# Altium integrated library Newport Power Mgt DC-DC Converter.IntLib: 312 symbols (part 1 of 5)
Pins are listed as number, name and electrical type; pins without a type are passive.

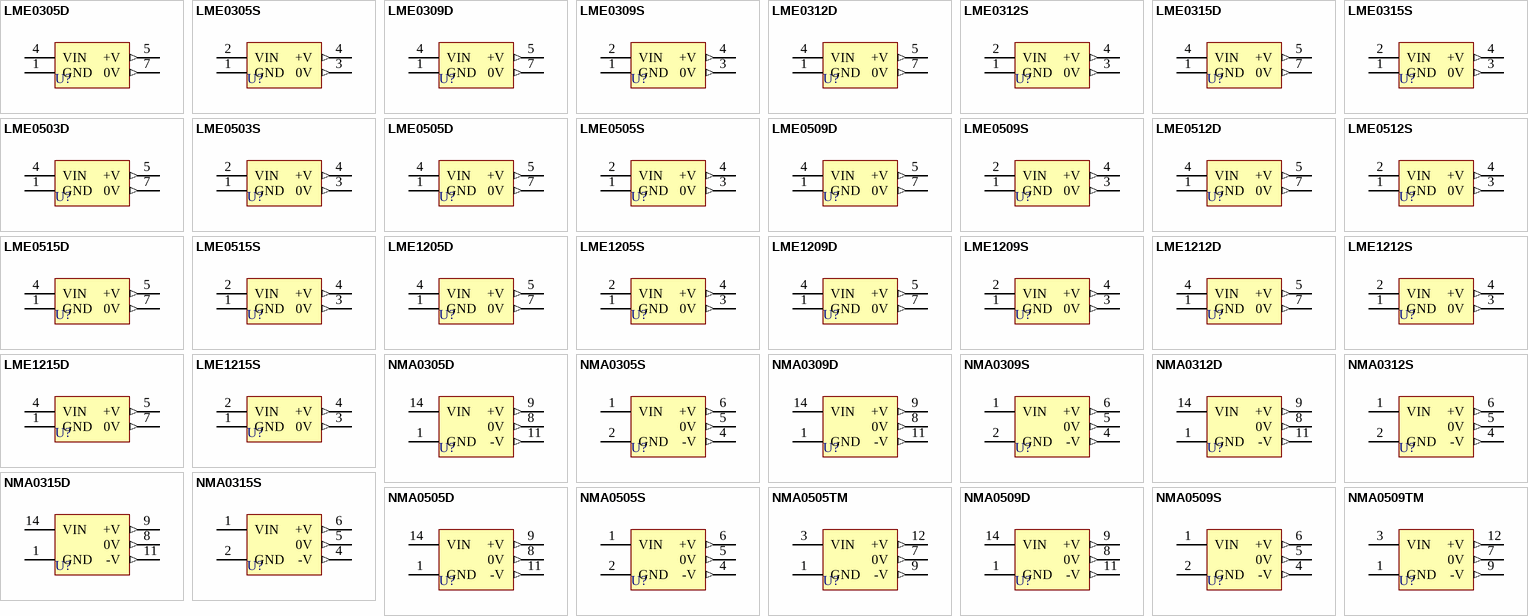
[diagram p0: symbols LME0305D to NMA0509TM]

## LME0305D
designator U?
Isolated 250mW Single Output; Note: Pins 2,3,6,8 are not presented; Published: 8-Jun-2000; LatestRevisionDate: 17-Jul-2002; LatestRevisionNote: Re-released for DXP Platform.; DatasheetVersion: Jul-1996; PackageVersion: 1996; PackageReference: NPDIP8; Publisher: Altium Limited; PackageDescription: DIP; 8 Rectangular pins (4 Absent); Row Space 7.62 mm; Pitch 2.54 mm; ComponentLink1Description: Manufacturer Link; ComponentLink1URL: http://www.dc-dc.com/; ComponentLink2Description: Datasheet; ComponentLink2URL: http://www.cd4power.com/data/power/ncl/ndc_lme_4.pdf
footprint NPDIP8 (DIP; 8 Rectangular pins (4 Absent); Row Space 7.62 mm; Pitch 2.54 mm)
pins: 1 GND (power), 4 VIN (power), 5 +V (out), 7 0V (out)

## LME0305S
designator U?
Isolated 250mW Single Output; Published: 8-Jun-2000; LatestRevisionDate: 17-Jul-2002; LatestRevisionNote: Re-released for DXP Platform.; DatasheetVersion: Jul-1996; PackageVersion: 1996; PackageReference: NPSIP4; Publisher: Altium Limited; PackageDescription: SIP; 4 Leads; Body 10 x 11.5 x 6 mm (typ); Pitch 2.54 mm; ComponentLink1Description: Manufacturer Link; ComponentLink1URL: http://www.dc-dc.com/; ComponentLink2Description: Datasheet; ComponentLink2URL: http://www.cd4power.com/data/power/ncl/ndc_lme_4.pdf
footprint NPSIP4 (SIP; 4 Leads; Body 10 x 11.5 x 6 mm (typ); Pitch 2.54 mm)
pins: 1 GND (power), 2 VIN (power), 3 0V (out), 4 +V (out)

## LME0309D
designator U?
Isolated 250mW Single Output; Note: Pins 2,3,6,8 are not presented; Published: 8-Jun-2000; LatestRevisionDate: 17-Jul-2002; LatestRevisionNote: Re-released for DXP Platform.; DatasheetVersion: Jul-1996; PackageVersion: 1996; PackageReference: NPDIP8; Publisher: Altium Limited; PackageDescription: DIP; 8 Rectangular pins (4 Absent); Row Space 7.62 mm; Pitch 2.54 mm; ComponentLink1Description: Manufacturer Link; ComponentLink1URL: http://www.dc-dc.com/; ComponentLink2Description: Datasheet; ComponentLink2URL: http://www.cd4power.com/data/power/ncl/ndc_lme_4.pdf
footprint NPDIP8 (DIP; 8 Rectangular pins (4 Absent); Row Space 7.62 mm; Pitch 2.54 mm)
pins: 1 GND (power), 4 VIN (power), 5 +V (out), 7 0V (out)

## LME0309S
designator U?
Isolated 250mW Single Output; Published: 8-Jun-2000; LatestRevisionDate: 17-Jul-2002; LatestRevisionNote: Re-released for DXP Platform.; DatasheetVersion: Jul-1996; PackageVersion: 1996; PackageReference: NPSIP4; Publisher: Altium Limited; PackageDescription: SIP; 4 Leads; Body 10 x 11.5 x 6 mm (typ); Pitch 2.54 mm; ComponentLink1Description: Manufacturer Link; ComponentLink1URL: http://www.dc-dc.com/; ComponentLink2Description: Datasheet; ComponentLink2URL: http://www.cd4power.com/data/power/ncl/ndc_lme_4.pdf
footprint NPSIP4 (SIP; 4 Leads; Body 10 x 11.5 x 6 mm (typ); Pitch 2.54 mm)
pins: 1 GND (power), 2 VIN (power), 3 0V (out), 4 +V (out)

## LME0312D
designator U?
Isolated 250mW Single Output; Note: Pins 2,3,6,8 are not presented; Published: 8-Jun-2000; LatestRevisionDate: 17-Jul-2002; LatestRevisionNote: Re-released for DXP Platform.; DatasheetVersion: Jul-1996; PackageVersion: 1996; PackageReference: NPDIP8; Publisher: Altium Limited; PackageDescription: DIP; 8 Rectangular pins (4 Absent); Row Space 7.62 mm; Pitch 2.54 mm; ComponentLink1Description: Manufacturer Link; ComponentLink1URL: http://www.dc-dc.com/; ComponentLink2Description: Datasheet; ComponentLink2URL: http://www.cd4power.com/data/power/ncl/ndc_lme_4.pdf
footprint NPDIP8 (DIP; 8 Rectangular pins (4 Absent); Row Space 7.62 mm; Pitch 2.54 mm)
pins: 1 GND (power), 4 VIN (power), 5 +V (out), 7 0V (out)

## LME0312S
designator U?
Isolated 250mW Single Output; Published: 8-Jun-2000; LatestRevisionDate: 17-Jul-2002; LatestRevisionNote: Re-released for DXP Platform.; DatasheetVersion: Jul-1996; PackageVersion: 1996; PackageReference: NPSIP4; Publisher: Altium Limited; PackageDescription: SIP; 4 Leads; Body 10 x 11.5 x 6 mm (typ); Pitch 2.54 mm; ComponentLink1Description: Manufacturer Link; ComponentLink1URL: http://www.dc-dc.com/; ComponentLink2Description: Datasheet; ComponentLink2URL: http://www.cd4power.com/data/power/ncl/ndc_lme_4.pdf
footprint NPSIP4 (SIP; 4 Leads; Body 10 x 11.5 x 6 mm (typ); Pitch 2.54 mm)
pins: 1 GND (power), 2 VIN (power), 3 0V (out), 4 +V (out)

## LME0315D
designator U?
Isolated 250mW Single Output; Note: Pins 2,3,6,8 are not presented; Published: 8-Jun-2000; LatestRevisionDate: 17-Jul-2002; LatestRevisionNote: Re-released for DXP Platform.; DatasheetVersion: Jul-1996; PackageVersion: 1996; PackageReference: NPDIP8; Publisher: Altium Limited; PackageDescription: DIP; 8 Rectangular pins (4 Absent); Row Space 7.62 mm; Pitch 2.54 mm; ComponentLink1Description: Manufacturer Link; ComponentLink1URL: http://www.dc-dc.com/; ComponentLink2Description: Datasheet; ComponentLink2URL: http://www.cd4power.com/data/power/ncl/ndc_lme_4.pdf
footprint NPDIP8 (DIP; 8 Rectangular pins (4 Absent); Row Space 7.62 mm; Pitch 2.54 mm)
pins: 1 GND (power), 4 VIN (power), 5 +V (out), 7 0V (out)

## LME0315S
designator U?
Isolated 250mW Single Output; Published: 8-Jun-2000; LatestRevisionDate: 17-Jul-2002; LatestRevisionNote: Re-released for DXP Platform.; DatasheetVersion: Jul-1996; PackageVersion: 1996; PackageReference: NPSIP4; Publisher: Altium Limited; PackageDescription: SIP; 4 Leads; Body 10 x 11.5 x 6 mm (typ); Pitch 2.54 mm; ComponentLink1Description: Manufacturer Link; ComponentLink1URL: http://www.dc-dc.com/; ComponentLink2Description: Datasheet; ComponentLink2URL: http://www.cd4power.com/data/power/ncl/ndc_lme_4.pdf
footprint NPSIP4 (SIP; 4 Leads; Body 10 x 11.5 x 6 mm (typ); Pitch 2.54 mm)
pins: 1 GND (power), 2 VIN (power), 3 0V (out), 4 +V (out)

## LME0503D
designator U?
Isolated 250mW Single Output; Note: Pins 2,3,6,8 are not presented; Published: 8-Jun-2000; LatestRevisionDate: 17-Jul-2002; LatestRevisionNote: Re-released for DXP Platform.; DatasheetVersion: Jul-1996; PackageVersion: 1996; PackageReference: NPDIP8; Publisher: Altium Limited; PackageDescription: DIP; 8 Rectangular pins (4 Absent); Row Space 7.62 mm; Pitch 2.54 mm; ComponentLink1Description: Manufacturer Link; ComponentLink1URL: http://www.dc-dc.com/; ComponentLink2Description: Datasheet; ComponentLink2URL: http://www.cd4power.com/data/power/ncl/ndc_lme_4.pdf
footprint NPDIP8 (DIP; 8 Rectangular pins (4 Absent); Row Space 7.62 mm; Pitch 2.54 mm)
pins: 1 GND (power), 4 VIN (power), 5 +V (out), 7 0V (out)

## LME0503S
designator U?
Isolated 250mW Single Output; Published: 8-Jun-2000; LatestRevisionDate: 17-Jul-2002; LatestRevisionNote: Re-released for DXP Platform.; DatasheetVersion: Jul-1996; PackageVersion: 1996; PackageReference: NPSIP4; Publisher: Altium Limited; PackageDescription: SIP; 4 Leads; Body 10 x 11.5 x 6 mm (typ); Pitch 2.54 mm; ComponentLink1Description: Manufacturer Link; ComponentLink1URL: http://www.dc-dc.com/; ComponentLink2Description: Datasheet; ComponentLink2URL: http://www.cd4power.com/data/power/ncl/ndc_lme_4.pdf
footprint NPSIP4 (SIP; 4 Leads; Body 10 x 11.5 x 6 mm (typ); Pitch 2.54 mm)
pins: 1 GND (power), 2 VIN (power), 3 0V (out), 4 +V (out)

## LME0505D
designator U?
Isolated 250mW Single Output; Note: Pins 2,3,6,8 are not presented; Published: 8-Jun-2000; LatestRevisionDate: 17-Jul-2002; LatestRevisionNote: Re-released for DXP Platform.; DatasheetVersion: Jul-1996; PackageVersion: 1996; PackageReference: NPDIP8; Publisher: Altium Limited; PackageDescription: DIP; 8 Rectangular pins (4 Absent); Row Space 7.62 mm; Pitch 2.54 mm; ComponentLink1Description: Manufacturer Link; ComponentLink1URL: http://www.dc-dc.com/; ComponentLink2Description: Datasheet; ComponentLink2URL: http://www.cd4power.com/data/power/ncl/ndc_lme_4.pdf
footprint NPDIP8 (DIP; 8 Rectangular pins (4 Absent); Row Space 7.62 mm; Pitch 2.54 mm)
pins: 1 GND (power), 4 VIN (power), 5 +V (out), 7 0V (out)

## LME0505S
designator U?
Isolated 250mW Single Output; Published: 8-Jun-2000; LatestRevisionDate: 17-Jul-2002; LatestRevisionNote: Re-released for DXP Platform.; DatasheetVersion: Jul-1996; PackageVersion: 1996; PackageReference: NPSIP4; Publisher: Altium Limited; PackageDescription: SIP; 4 Leads; Body 10 x 11.5 x 6 mm (typ); Pitch 2.54 mm; ComponentLink1Description: Manufacturer Link; ComponentLink1URL: http://www.dc-dc.com/; ComponentLink2Description: Datasheet; ComponentLink2URL: http://www.cd4power.com/data/power/ncl/ndc_lme_4.pdf
footprint NPSIP4 (SIP; 4 Leads; Body 10 x 11.5 x 6 mm (typ); Pitch 2.54 mm)
pins: 1 GND (power), 2 VIN (power), 3 0V (out), 4 +V (out)

## LME0509D
designator U?
Isolated 250mW Single Output; Note: Pins 2,3,6,8 are not presented; Published: 8-Jun-2000; LatestRevisionDate: 17-Jul-2002; LatestRevisionNote: Re-released for DXP Platform.; DatasheetVersion: Jul-1996; PackageVersion: 1996; PackageReference: NPDIP8; Publisher: Altium Limited; PackageDescription: DIP; 8 Rectangular pins (4 Absent); Row Space 7.62 mm; Pitch 2.54 mm; ComponentLink1Description: Manufacturer Link; ComponentLink1URL: http://www.dc-dc.com/; ComponentLink2Description: Datasheet; ComponentLink2URL: http://www.cd4power.com/data/power/ncl/ndc_lme_4.pdf
footprint NPDIP8 (DIP; 8 Rectangular pins (4 Absent); Row Space 7.62 mm; Pitch 2.54 mm)
pins: 1 GND (power), 4 VIN (power), 5 +V (out), 7 0V (out)

## LME0509S
designator U?
Isolated 250mW Single Output; Published: 8-Jun-2000; LatestRevisionDate: 17-Jul-2002; LatestRevisionNote: Re-released for DXP Platform.; DatasheetVersion: Jul-1996; PackageVersion: 1996; PackageReference: NPSIP4; Publisher: Altium Limited; PackageDescription: SIP; 4 Leads; Body 10 x 11.5 x 6 mm (typ); Pitch 2.54 mm; ComponentLink1Description: Manufacturer Link; ComponentLink1URL: http://www.dc-dc.com/; ComponentLink2Description: Datasheet; ComponentLink2URL: http://www.cd4power.com/data/power/ncl/ndc_lme_4.pdf
footprint NPSIP4 (SIP; 4 Leads; Body 10 x 11.5 x 6 mm (typ); Pitch 2.54 mm)
pins: 1 GND (power), 2 VIN (power), 3 0V (out), 4 +V (out)

## LME0512D
designator U?
Isolated 250mW Single Output; Note: Pins 2,3,6,8 are not presented; Published: 8-Jun-2000; LatestRevisionDate: 17-Jul-2002; LatestRevisionNote: Re-released for DXP Platform.; DatasheetVersion: Jul-1996; PackageVersion: 1996; PackageReference: NPDIP8; Publisher: Altium Limited; PackageDescription: DIP; 8 Rectangular pins (4 Absent); Row Space 7.62 mm; Pitch 2.54 mm; ComponentLink1Description: Manufacturer Link; ComponentLink1URL: http://www.dc-dc.com/; ComponentLink2Description: Datasheet; ComponentLink2URL: http://www.cd4power.com/data/power/ncl/ndc_lme_4.pdf
footprint NPDIP8 (DIP; 8 Rectangular pins (4 Absent); Row Space 7.62 mm; Pitch 2.54 mm)
pins: 1 GND (power), 4 VIN (power), 5 +V (out), 7 0V (out)

## LME0512S
designator U?
Isolated 250mW Single Output; Published: 8-Jun-2000; LatestRevisionDate: 17-Jul-2002; LatestRevisionNote: Re-released for DXP Platform.; DatasheetVersion: Jul-1996; PackageVersion: 1996; PackageReference: NPSIP4; Publisher: Altium Limited; PackageDescription: SIP; 4 Leads; Body 10 x 11.5 x 6 mm (typ); Pitch 2.54 mm; ComponentLink1Description: Manufacturer Link; ComponentLink1URL: http://www.dc-dc.com/; ComponentLink2Description: Datasheet; ComponentLink2URL: http://www.cd4power.com/data/power/ncl/ndc_lme_4.pdf
footprint NPSIP4 (SIP; 4 Leads; Body 10 x 11.5 x 6 mm (typ); Pitch 2.54 mm)
pins: 1 GND (power), 2 VIN (power), 3 0V (out), 4 +V (out)

## LME0515D
designator U?
Isolated 250mW Single Output; Note: Pins 2,3,6,8 are not presented; Published: 8-Jun-2000; LatestRevisionDate: 17-Jul-2002; LatestRevisionNote: Re-released for DXP Platform.; DatasheetVersion: Jul-1996; PackageVersion: 1996; PackageReference: NPDIP8; Publisher: Altium Limited; PackageDescription: DIP; 8 Rectangular pins (4 Absent); Row Space 7.62 mm; Pitch 2.54 mm; ComponentLink1Description: Manufacturer Link; ComponentLink1URL: http://www.dc-dc.com/; ComponentLink2Description: Datasheet; ComponentLink2URL: http://www.cd4power.com/data/power/ncl/ndc_lme_4.pdf
footprint NPDIP8 (DIP; 8 Rectangular pins (4 Absent); Row Space 7.62 mm; Pitch 2.54 mm)
pins: 1 GND (power), 4 VIN (power), 5 +V (out), 7 0V (out)

## LME0515S
designator U?
Isolated 250mW Single Output; Published: 8-Jun-2000; LatestRevisionDate: 17-Jul-2002; LatestRevisionNote: Re-released for DXP Platform.; DatasheetVersion: Jul-1996; PackageVersion: 1996; PackageReference: NPSIP4; Publisher: Altium Limited; PackageDescription: SIP; 4 Leads; Body 10 x 11.5 x 6 mm (typ); Pitch 2.54 mm; ComponentLink1Description: Manufacturer Link; ComponentLink1URL: http://www.dc-dc.com/; ComponentLink2Description: Datasheet; ComponentLink2URL: http://www.cd4power.com/data/power/ncl/ndc_lme_4.pdf
footprint NPSIP4 (SIP; 4 Leads; Body 10 x 11.5 x 6 mm (typ); Pitch 2.54 mm)
pins: 1 GND (power), 2 VIN (power), 3 0V (out), 4 +V (out)

## LME1205D
designator U?
Isolated 250mW Single Output; Note: Pins 2,3,6,8 are not presented; Published: 8-Jun-2000; LatestRevisionDate: 17-Jul-2002; LatestRevisionNote: Re-released for DXP Platform.; DatasheetVersion: Jul-1996; PackageVersion: 1996; PackageReference: NPDIP8; Publisher: Altium Limited; PackageDescription: DIP; 8 Rectangular pins (4 Absent); Row Space 7.62 mm; Pitch 2.54 mm; ComponentLink1Description: Manufacturer Link; ComponentLink1URL: http://www.dc-dc.com/; ComponentLink2Description: Datasheet; ComponentLink2URL: http://www.cd4power.com/data/power/ncl/ndc_lme_4.pdf
footprint NPDIP8 (DIP; 8 Rectangular pins (4 Absent); Row Space 7.62 mm; Pitch 2.54 mm)
pins: 1 GND (power), 4 VIN (power), 5 +V (out), 7 0V (out)

## LME1205S
designator U?
Isolated 250mW Single Output; Published: 8-Jun-2000; LatestRevisionDate: 17-Jul-2002; LatestRevisionNote: Re-released for DXP Platform.; DatasheetVersion: Jul-1996; PackageVersion: 1996; PackageReference: NPSIP4; Publisher: Altium Limited; PackageDescription: SIP; 4 Leads; Body 10 x 11.5 x 6 mm (typ); Pitch 2.54 mm; ComponentLink1Description: Manufacturer Link; ComponentLink1URL: http://www.dc-dc.com/; ComponentLink2Description: Datasheet; ComponentLink2URL: http://www.cd4power.com/data/power/ncl/ndc_lme_4.pdf
footprint NPSIP4 (SIP; 4 Leads; Body 10 x 11.5 x 6 mm (typ); Pitch 2.54 mm)
pins: 1 GND (power), 2 VIN (power), 3 0V (out), 4 +V (out)

## LME1209D
designator U?
Isolated 250mW Single Output; Note: Pins 2,3,6,8 are not presented; Published: 8-Jun-2000; LatestRevisionDate: 17-Jul-2002; LatestRevisionNote: Re-released for DXP Platform.; DatasheetVersion: Jul-1996; PackageVersion: 1996; PackageReference: NPDIP8; Publisher: Altium Limited; PackageDescription: DIP; 8 Rectangular pins (4 Absent); Row Space 7.62 mm; Pitch 2.54 mm; ComponentLink1Description: Manufacturer Link; ComponentLink1URL: http://www.dc-dc.com/; ComponentLink2Description: Datasheet; ComponentLink2URL: http://www.cd4power.com/data/power/ncl/ndc_lme_4.pdf
footprint NPDIP8 (DIP; 8 Rectangular pins (4 Absent); Row Space 7.62 mm; Pitch 2.54 mm)
pins: 1 GND (power), 4 VIN (power), 5 +V (out), 7 0V (out)

## LME1209S
designator U?
Isolated 250mW Single Output; Published: 8-Jun-2000; LatestRevisionDate: 17-Jul-2002; LatestRevisionNote: Re-released for DXP Platform.; DatasheetVersion: Jul-1996; PackageVersion: 1996; PackageReference: NPSIP4; Publisher: Altium Limited; PackageDescription: SIP; 4 Leads; Body 10 x 11.5 x 6 mm (typ); Pitch 2.54 mm; ComponentLink1Description: Manufacturer Link; ComponentLink1URL: http://www.dc-dc.com/; ComponentLink2Description: Datasheet; ComponentLink2URL: http://www.cd4power.com/data/power/ncl/ndc_lme_4.pdf
footprint NPSIP4 (SIP; 4 Leads; Body 10 x 11.5 x 6 mm (typ); Pitch 2.54 mm)
pins: 1 GND (power), 2 VIN (power), 3 0V (out), 4 +V (out)

## LME1212D
designator U?
Isolated 250mW Single Output; Note: Pins 2,3,6,8 are not presented; Published: 8-Jun-2000; LatestRevisionDate: 17-Jul-2002; LatestRevisionNote: Re-released for DXP Platform.; DatasheetVersion: Jul-1996; PackageVersion: 1996; PackageReference: NPDIP8; Publisher: Altium Limited; PackageDescription: DIP; 8 Rectangular pins (4 Absent); Row Space 7.62 mm; Pitch 2.54 mm; ComponentLink1Description: Manufacturer Link; ComponentLink1URL: http://www.dc-dc.com/; ComponentLink2Description: Datasheet; ComponentLink2URL: http://www.cd4power.com/data/power/ncl/ndc_lme_4.pdf
footprint NPDIP8 (DIP; 8 Rectangular pins (4 Absent); Row Space 7.62 mm; Pitch 2.54 mm)
pins: 1 GND (power), 4 VIN (power), 5 +V (out), 7 0V (out)

## LME1212S
designator U?
Isolated 250mW Single Output; Published: 8-Jun-2000; LatestRevisionDate: 17-Jul-2002; LatestRevisionNote: Re-released for DXP Platform.; DatasheetVersion: Jul-1996; PackageVersion: 1996; PackageReference: NPSIP4; Publisher: Altium Limited; PackageDescription: SIP; 4 Leads; Body 10 x 11.5 x 6 mm (typ); Pitch 2.54 mm; ComponentLink1Description: Manufacturer Link; ComponentLink1URL: http://www.dc-dc.com/; ComponentLink2Description: Datasheet; ComponentLink2URL: http://www.cd4power.com/data/power/ncl/ndc_lme_4.pdf
footprint NPSIP4 (SIP; 4 Leads; Body 10 x 11.5 x 6 mm (typ); Pitch 2.54 mm)
pins: 1 GND (power), 2 VIN (power), 3 0V (out), 4 +V (out)

## LME1215D
designator U?
Isolated 250mW Single Output; Note: Pins 2,3,6,8 are not presented; Published: 8-Jun-2000; LatestRevisionDate: 17-Jul-2002; LatestRevisionNote: Re-released for DXP Platform.; DatasheetVersion: Jul-1996; PackageVersion: 1996; PackageReference: NPDIP8; Publisher: Altium Limited; PackageDescription: DIP; 8 Rectangular pins (4 Absent); Row Space 7.62 mm; Pitch 2.54 mm; ComponentLink1Description: Manufacturer Link; ComponentLink1URL: http://www.dc-dc.com/; ComponentLink2Description: Datasheet; ComponentLink2URL: http://www.cd4power.com/data/power/ncl/ndc_lme_4.pdf
footprint NPDIP8 (DIP; 8 Rectangular pins (4 Absent); Row Space 7.62 mm; Pitch 2.54 mm)
pins: 1 GND (power), 4 VIN (power), 5 +V (out), 7 0V (out)

## LME1215S
designator U?
Isolated 250mW Single Output; Published: 8-Jun-2000; LatestRevisionDate: 17-Jul-2002; LatestRevisionNote: Re-released for DXP Platform.; DatasheetVersion: Jul-1996; PackageVersion: 1996; PackageReference: NPSIP4; Publisher: Altium Limited; PackageDescription: SIP; 4 Leads; Body 10 x 11.5 x 6 mm (typ); Pitch 2.54 mm; ComponentLink1Description: Manufacturer Link; ComponentLink1URL: http://www.dc-dc.com/; ComponentLink2Description: Datasheet; ComponentLink2URL: http://www.cd4power.com/data/power/ncl/ndc_lme_4.pdf
footprint NPSIP4 (SIP; 4 Leads; Body 10 x 11.5 x 6 mm (typ); Pitch 2.54 mm)
pins: 1 GND (power), 2 VIN (power), 3 0V (out), 4 +V (out)

## NMA0305D
designator U?
Isolated 1W Dual Output; Note: Pin 7 is No Internal Connection (NC) pin and is not drawn. Pins 2-6, 10, 12 and 13 are not present.; Published: 8-Jun-2000; LatestRevisionDate: 17-Jul-2002; LatestRevisionNote: PCB footprint, 'DIP-P6(14)/X1.2' replaced; Re-released for DXP Platform.; DatasheetVersion: Jul-1996; PackageVersion: 1996; PackageReference: NPDIP14; Publisher: Altium Limited; PackageDescription: DIP; 14 Rectangular pins (8 Absent); Row Space 7.62 mm; Pitch 2.54 mm; ComponentLink1Description: Manufacturer Link; ComponentLink1URL: http://www.dc-dc.com/; ComponentLink2Description: Datasheet; ComponentLink2URL: http://www.cd4power.com/data/power/ncl/ndc_nma_3.pdf
footprint NPDIP14 (DIP; 14 Rectangular pins (8 Absent); Row Space 7.62 mm; Pitch 2.54 mm)
pins: 1 GND (power), 8 0V (out), 9 +V (out), 11 -V (out), 14 VIN (power)

## NMA0305S
designator U?
Isolated 1W Dual Output; Note: Pins 3 and 7 are not present.; Published: 8-Jun-2000; LatestRevisionDate: 17-Jul-2002; LatestRevisionNote: Re-released for DXP Platform.; DatasheetVersion: Jul-1996; PackageVersion: 1996; PackageReference: NPSIP7; Publisher: Altium Limited; PackageDescription: SIP; 7 Leads (2 Absent); Body 19.5 x 6 mm (LxW typ); Pitch 2.54 mm; ComponentLink1Description: Manufacturer Link; ComponentLink1URL: http://www.dc-dc.com/; ComponentLink2Description: Datasheet; ComponentLink2URL: http://www.cd4power.com/data/power/ncl/ndc_nma_3.pdf
footprint NPSIP7 (SIP; 7 Leads (2 Absent); Body 19.5 x 6 mm (LxW typ); Pitch 2.54 mm)
pins: 1 VIN (power), 2 GND (power), 4 -V (out), 5 0V (out), 6 +V (out)

## NMA0309D
designator U?
Isolated 1W Dual Output; Note: Pin 7 is No Internal Connection (NC) pin and is not drawn. Pins 2-6, 10, 12 and 13 are not present.; Published: 8-Jun-2000; LatestRevisionDate: 17-Jul-2002; LatestRevisionNote: PCB footprint, 'DIP-P6(14)/X1.2' replaced; Re-released for DXP Platform.; DatasheetVersion: Jul-1996; PackageVersion: 1996; PackageReference: NPDIP14; Publisher: Altium Limited; PackageDescription: DIP; 14 Rectangular pins (8 Absent); Row Space 7.62 mm; Pitch 2.54 mm; ComponentLink1Description: Manufacturer Link; ComponentLink1URL: http://www.dc-dc.com/; ComponentLink2Description: Datasheet; ComponentLink2URL: http://www.cd4power.com/data/power/ncl/ndc_nma_3.pdf
footprint NPDIP14 (DIP; 14 Rectangular pins (8 Absent); Row Space 7.62 mm; Pitch 2.54 mm)
pins: 1 GND (power), 8 0V (out), 9 +V (out), 11 -V (out), 14 VIN (power)

## NMA0309S
designator U?
Isolated 1W Dual Output; Note: Pins 3 and 7 are not present.; Published: 8-Jun-2000; LatestRevisionDate: 17-Jul-2002; LatestRevisionNote: Re-released for DXP Platform.; DatasheetVersion: Jul-1996; PackageVersion: 1996; PackageReference: NPSIP7; Publisher: Altium Limited; PackageDescription: SIP; 7 Leads (2 Absent); Body 19.5 x 6 mm (LxW typ); Pitch 2.54 mm; ComponentLink1Description: Manufacturer Link; ComponentLink1URL: http://www.dc-dc.com/; ComponentLink2Description: Datasheet; ComponentLink2URL: http://www.cd4power.com/data/power/ncl/ndc_nma_3.pdf
footprint NPSIP7 (SIP; 7 Leads (2 Absent); Body 19.5 x 6 mm (LxW typ); Pitch 2.54 mm)
pins: 1 VIN (power), 2 GND (power), 4 -V (out), 5 0V (out), 6 +V (out)

## NMA0312D
designator U?
Isolated 1W Dual Output; Note: Pin 7 is No Internal Connection (NC) pin and is not drawn. Pins 2-6, 10, 12 and 13 are not present.; Published: 8-Jun-2000; LatestRevisionDate: 17-Jul-2002; LatestRevisionNote: PCB footprint, 'DIP-P6(14)/X1.2' replaced; Re-released for DXP Platform.; DatasheetVersion: Jul-1996; PackageVersion: 1996; PackageReference: NPDIP14; Publisher: Altium Limited; PackageDescription: DIP; 14 Rectangular pins (8 Absent); Row Space 7.62 mm; Pitch 2.54 mm; ComponentLink1Description: Manufacturer Link; ComponentLink1URL: http://www.dc-dc.com/; ComponentLink2Description: Datasheet; ComponentLink2URL: http://www.cd4power.com/data/power/ncl/ndc_nma_3.pdf
footprint NPDIP14 (DIP; 14 Rectangular pins (8 Absent); Row Space 7.62 mm; Pitch 2.54 mm)
pins: 1 GND (power), 8 0V (out), 9 +V (out), 11 -V (out), 14 VIN (power)

## NMA0312S
designator U?
Isolated 1W Dual Output; Note: Pins 3 and 7 are not present.; Published: 8-Jun-2000; LatestRevisionDate: 17-Jul-2002; LatestRevisionNote: Re-released for DXP Platform.; DatasheetVersion: Jul-1996; PackageVersion: 1996; PackageReference: NPSIP7; Publisher: Altium Limited; PackageDescription: SIP; 7 Leads (2 Absent); Body 19.5 x 6 mm (LxW typ); Pitch 2.54 mm; ComponentLink1Description: Manufacturer Link; ComponentLink1URL: http://www.dc-dc.com/; ComponentLink2Description: Datasheet; ComponentLink2URL: http://www.cd4power.com/data/power/ncl/ndc_nma_3.pdf
footprint NPSIP7 (SIP; 7 Leads (2 Absent); Body 19.5 x 6 mm (LxW typ); Pitch 2.54 mm)
pins: 1 VIN (power), 2 GND (power), 4 -V (out), 5 0V (out), 6 +V (out)

## NMA0315D
designator U?
Isolated 1W Dual Output; Note: Pin 7 is No Internal Connection (NC) pin and is not drawn. Pins 2-6, 10, 12 and 13 are not present.; Published: 8-Jun-2000; LatestRevisionDate: 17-Jul-2002; LatestRevisionNote: PCB footprint, 'DIP-P6(14)/X1.2' replaced; Re-released for DXP Platform.; DatasheetVersion: Jul-1996; PackageVersion: 1996; PackageReference: NPDIP14; Publisher: Altium Limited; PackageDescription: DIP; 14 Rectangular pins (8 Absent); Row Space 7.62 mm; Pitch 2.54 mm; ComponentLink1Description: Manufacturer Link; ComponentLink1URL: http://www.dc-dc.com/; ComponentLink2Description: Datasheet; ComponentLink2URL: http://www.cd4power.com/data/power/ncl/ndc_nma_3.pdf
footprint NPDIP14 (DIP; 14 Rectangular pins (8 Absent); Row Space 7.62 mm; Pitch 2.54 mm)
pins: 1 GND (power), 8 0V (out), 9 +V (out), 11 -V (out), 14 VIN (power)

## NMA0315S
designator U?
Isolated 1W Dual Output; Note: Pins 3 and 7 are not present.; Published: 8-Jun-2000; LatestRevisionDate: 17-Jul-2002; LatestRevisionNote: Re-released for DXP Platform.; DatasheetVersion: Jul-1996; PackageVersion: 1996; PackageReference: NPSIP7; Publisher: Altium Limited; PackageDescription: SIP; 7 Leads (2 Absent); Body 19.5 x 6 mm (LxW typ); Pitch 2.54 mm; ComponentLink1Description: Manufacturer Link; ComponentLink1URL: http://www.dc-dc.com/; ComponentLink2Description: Datasheet; ComponentLink2URL: http://www.cd4power.com/data/power/ncl/ndc_nma_3.pdf
footprint NPSIP7 (SIP; 7 Leads (2 Absent); Body 19.5 x 6 mm (LxW typ); Pitch 2.54 mm)
pins: 1 VIN (power), 2 GND (power), 4 -V (out), 5 0V (out), 6 +V (out)

## NMA0505D
designator U?
Isolated 1W Dual Output; Note: Pin 7 is No Internal Connection (NC) pin and is not drawn. Pins 2-6, 10, 12 and 13 are not present.; Published: 8-Jun-2000; LatestRevisionDate: 17-Jul-2002; LatestRevisionNote: PCB footprint, 'DIP-P6(14)/X1.2' replaced; Re-released for DXP Platform.; DatasheetVersion: Jul-1996; PackageVersion: 1996; PackageReference: NPDIP14; Publisher: Altium Limited; PackageDescription: DIP; 14 Rectangular pins (8 Absent); Row Space 7.62 mm; Pitch 2.54 mm; ComponentLink1Description: Manufacturer Link; ComponentLink1URL: http://www.dc-dc.com/; ComponentLink2Description: Datasheet; ComponentLink2URL: http://www.cd4power.com/data/power/ncl/ndc_nma_3.pdf
footprint NPDIP14 (DIP; 14 Rectangular pins (8 Absent); Row Space 7.62 mm; Pitch 2.54 mm)
pins: 1 GND (power), 8 0V (out), 9 +V (out), 11 -V (out), 14 VIN (power)

## NMA0505S
designator U?
Isolated 1W Dual Output; Note: Pins 3 and 7 are not present.; Published: 8-Jun-2000; LatestRevisionDate: 17-Jul-2002; LatestRevisionNote: Re-released for DXP Platform.; DatasheetVersion: Jul-1996; PackageVersion: 1996; PackageReference: NPSIP7; Publisher: Altium Limited; PackageDescription: SIP; 7 Leads (2 Absent); Body 19.5 x 6 mm (LxW typ); Pitch 2.54 mm; ComponentLink1Description: Manufacturer Link; ComponentLink1URL: http://www.dc-dc.com/; ComponentLink2Description: Datasheet; ComponentLink2URL: http://www.cd4power.com/data/power/ncl/ndc_nma_3.pdf
footprint NPSIP7 (SIP; 7 Leads (2 Absent); Body 19.5 x 6 mm (LxW typ); Pitch 2.54 mm)
pins: 1 VIN (power), 2 GND (power), 4 -V (out), 5 0V (out), 6 +V (out)

## NMA0505TM
designator U?
Isolated 1W Dual Output Surface Mount; Note: Pin 18 is No Internal Connection (NC) pin and is not drawn.  Pins 2, 4, 5, 6, 8,10, 11 and 13-17 are not present.; Published: 8-Jun-2000; LatestRevisionDate: 13-Apr-2006; LatestRevisionNote: IPC-7351 Footprint Added.; DatasheetVersion: Jul-1996; PackageVersion: 1996; PackageReference: NPSOIC18; Publisher: Altium Limited; PackageDescription: 18-Pin (12 Absent) Small Outline Package 1.27 mm Pitch; ComponentLink1Description: Manufacturer Link; ComponentLink1URL: http://www.dc-dc.com/; ComponentLink2Description: Datasheet; ComponentLink2URL: http://www.cd4power.com/data/power/ncl/ndc_nma_3.pdf
footprint NPSOIC18_N (SOP, 18-Leads (12 Absent), Body 15.2x7.7mm, Pitch 1.27mm, IPC Medium Density)
footprint NPSOIC18_L (SOP, 18-Leads (12 Absent), Body 15.2x7.7mm, Pitch 1.27mm, IPC High Density)
footprint NPSOIC18_M (SOP, 18-Leads (12 Absent), Body 15.2x7.7mm, Pitch 1.27mm, IPC Low Density)
pins: 1 GND (power), 3 VIN (power), 7 0V (out), 9 -V (out), 12 +V (out)

## NMA0509D
designator U?
Isolated 1W Dual Output; Note: Pin 7 is No Internal Connection (NC) pin and is not drawn. Pins 2-6, 10, 12 and 13 are not present.; Published: 8-Jun-2000; LatestRevisionDate: 17-Jul-2002; LatestRevisionNote: PCB footprint, 'DIP-P6(14)/X1.2' replaced; Re-released for DXP Platform.; DatasheetVersion: Jul-1996; PackageVersion: 1996; PackageReference: NPDIP14; Publisher: Altium Limited; PackageDescription: DIP; 14 Rectangular pins (8 Absent); Row Space 7.62 mm; Pitch 2.54 mm; ComponentLink1Description: Manufacturer Link; ComponentLink1URL: http://www.dc-dc.com/; ComponentLink2Description: Datasheet; ComponentLink2URL: http://www.cd4power.com/data/power/ncl/ndc_nma_3.pdf
footprint NPDIP14 (DIP; 14 Rectangular pins (8 Absent); Row Space 7.62 mm; Pitch 2.54 mm)
pins: 1 GND (power), 8 0V (out), 9 +V (out), 11 -V (out), 14 VIN (power)

## NMA0509S
designator U?
Isolated 1W Dual Output; Note: Pins 3 and 7 are not present.; Published: 8-Jun-2000; LatestRevisionDate: 17-Jul-2002; LatestRevisionNote: Re-released for DXP Platform.; DatasheetVersion: Jul-1996; PackageVersion: 1996; PackageReference: NPSIP7; Publisher: Altium Limited; PackageDescription: SIP; 7 Leads (2 Absent); Body 19.5 x 6 mm (LxW typ); Pitch 2.54 mm; ComponentLink1Description: Manufacturer Link; ComponentLink1URL: http://www.dc-dc.com/; ComponentLink2Description: Datasheet; ComponentLink2URL: http://www.cd4power.com/data/power/ncl/ndc_nma_3.pdf
footprint NPSIP7 (SIP; 7 Leads (2 Absent); Body 19.5 x 6 mm (LxW typ); Pitch 2.54 mm)
pins: 1 VIN (power), 2 GND (power), 4 -V (out), 5 0V (out), 6 +V (out)

## NMA0509TM
designator U?
Isolated 1W Dual Output Surface Mount; Note: Pin 18 is No Internal Connection (NC) pin and is not drawn.  Pins 2, 4, 5, 6, 8,10, 11 and 13-17 are not present.; Published: 8-Jun-2000; LatestRevisionDate: 13-Apr-2006; LatestRevisionNote: IPC-7351 Footprint Added.; DatasheetVersion: Jul-1996; PackageVersion: 1996; PackageReference: NPSOIC18; Publisher: Altium Limited; PackageDescription: 18-Pin (12 Absent) Small Outline Package 1.27 mm Pitch; ComponentLink1Description: Manufacturer Link; ComponentLink1URL: http://www.dc-dc.com/; ComponentLink2Description: Datasheet; ComponentLink2URL: http://www.cd4power.com/data/power/ncl/ndc_nma_3.pdf
footprint NPSOIC18_N (SOP, 18-Leads (12 Absent), Body 15.2x7.7mm, Pitch 1.27mm, IPC Medium Density)
footprint NPSOIC18_L (SOP, 18-Leads (12 Absent), Body 15.2x7.7mm, Pitch 1.27mm, IPC High Density)
footprint NPSOIC18_M (SOP, 18-Leads (12 Absent), Body 15.2x7.7mm, Pitch 1.27mm, IPC Low Density)
pins: 1 GND (power), 3 VIN (power), 7 0V (out), 9 -V (out), 12 +V (out)

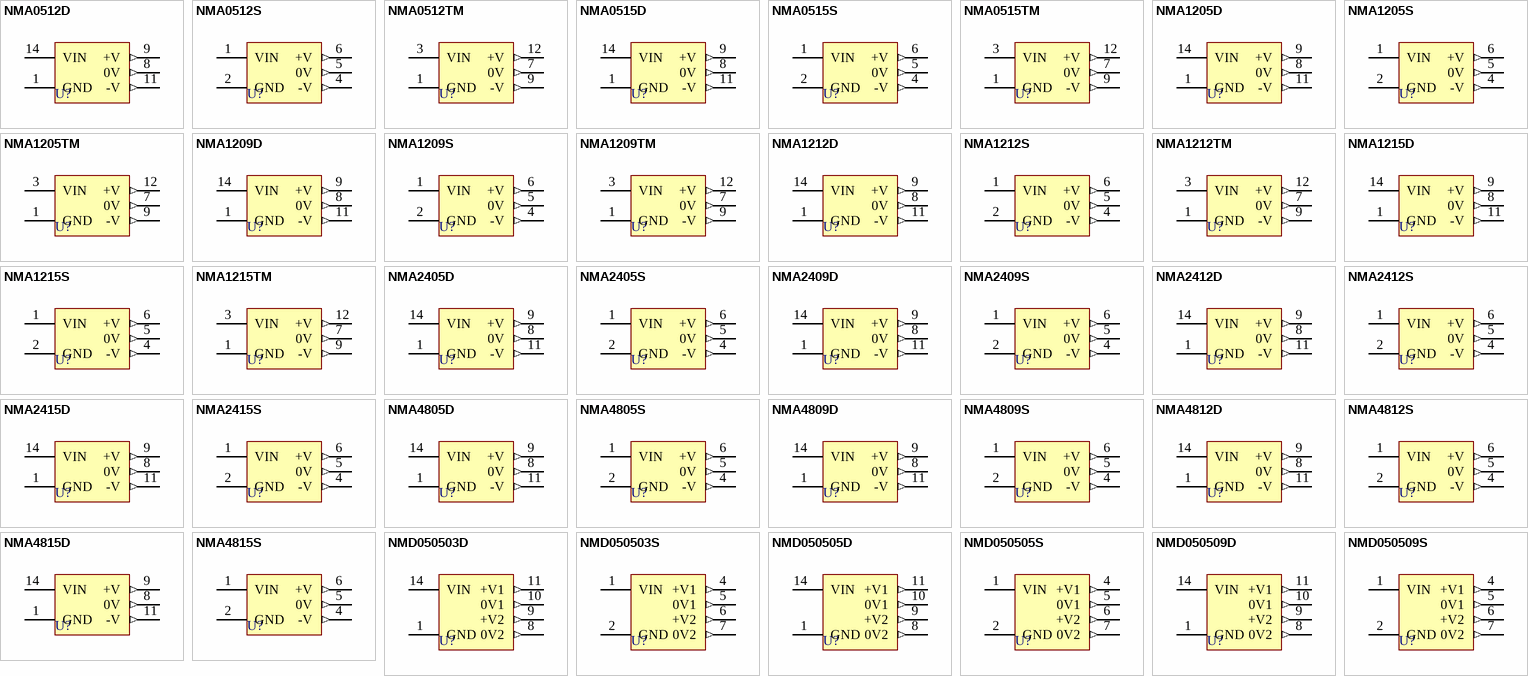
[diagram p1: symbols NMA0512D to NMD050509S]

## NMA0512D
designator U?
Isolated 1W Dual Output; Note: Pin 7 is No Internal Connection (NC) pin and is not drawn. Pins 2-6, 10, 12 and 13 are not present.; Published: 8-Jun-2000; LatestRevisionDate: 17-Jul-2002; LatestRevisionNote: PCB footprint, 'DIP-P6(14)/X1.2' replaced; Re-released for DXP Platform.; DatasheetVersion: Jul-1996; PackageVersion: 1996; PackageReference: NPDIP14; Publisher: Altium Limited; PackageDescription: DIP; 14 Rectangular pins (8 Absent); Row Space 7.62 mm; Pitch 2.54 mm; ComponentLink1Description: Manufacturer Link; ComponentLink1URL: http://www.dc-dc.com/; ComponentLink2Description: Datasheet; ComponentLink2URL: http://www.cd4power.com/data/power/ncl/ndc_nma_3.pdf
footprint NPDIP14 (DIP; 14 Rectangular pins (8 Absent); Row Space 7.62 mm; Pitch 2.54 mm)
pins: 1 GND (power), 8 0V (out), 9 +V (out), 11 -V (out), 14 VIN (power)

## NMA0512S
designator U?
Isolated 1W Dual Output; Note: Pins 3 and 7 are not present.; Published: 8-Jun-2000; LatestRevisionDate: 17-Jul-2002; LatestRevisionNote: Re-released for DXP Platform.; DatasheetVersion: Jul-1996; PackageVersion: 1996; PackageReference: NPSIP7; Publisher: Altium Limited; PackageDescription: SIP; 7 Leads (2 Absent); Body 19.5 x 6 mm (LxW typ); Pitch 2.54 mm; ComponentLink1Description: Manufacturer Link; ComponentLink1URL: http://www.dc-dc.com/; ComponentLink2Description: Datasheet; ComponentLink2URL: http://www.cd4power.com/data/power/ncl/ndc_nma_3.pdf
footprint NPSIP7 (SIP; 7 Leads (2 Absent); Body 19.5 x 6 mm (LxW typ); Pitch 2.54 mm)
pins: 1 VIN (power), 2 GND (power), 4 -V (out), 5 0V (out), 6 +V (out)

## NMA0512TM
designator U?
Isolated 1W Dual Output Surface Mount; Note: Pin 18 is No Internal Connection (NC) pin and is not drawn.  Pins 2, 4, 5, 6, 8,10, 11 and 13-17 are not present.; Published: 8-Jun-2000; LatestRevisionDate: 13-Apr-2006; LatestRevisionNote: IPC-7351 Footprint Added.; DatasheetVersion: Jul-1996; PackageVersion: 1996; PackageReference: NPSOIC18; Publisher: Altium Limited; PackageDescription: 18-Pin (12 Absent) Small Outline Package 1.27 mm Pitch; ComponentLink1Description: Manufacturer Link; ComponentLink1URL: http://www.dc-dc.com/; ComponentLink2Description: Datasheet; ComponentLink2URL: http://www.cd4power.com/data/power/ncl/ndc_nma_3.pdf
footprint NPSOIC18_N (SOP, 18-Leads (12 Absent), Body 15.2x7.7mm, Pitch 1.27mm, IPC Medium Density)
footprint NPSOIC18_L (SOP, 18-Leads (12 Absent), Body 15.2x7.7mm, Pitch 1.27mm, IPC High Density)
footprint NPSOIC18_M (SOP, 18-Leads (12 Absent), Body 15.2x7.7mm, Pitch 1.27mm, IPC Low Density)
pins: 1 GND (power), 3 VIN (power), 7 0V (out), 9 -V (out), 12 +V (out)

## NMA0515D
designator U?
Isolated 1W Dual Output; Note: Pin 7 is No Internal Connection (NC) pin and is not drawn. Pins 2-6, 10, 12 and 13 are not present.; Published: 8-Jun-2000; LatestRevisionDate: 17-Jul-2002; LatestRevisionNote: PCB footprint, 'DIP-P6(14)/X1.2' replaced; Re-released for DXP Platform.; DatasheetVersion: Jul-1996; PackageVersion: 1996; PackageReference: NPDIP14; Publisher: Altium Limited; PackageDescription: DIP; 14 Rectangular pins (8 Absent); Row Space 7.62 mm; Pitch 2.54 mm; ComponentLink1Description: Manufacturer Link; ComponentLink1URL: http://www.dc-dc.com/; ComponentLink2Description: Datasheet; ComponentLink2URL: http://www.cd4power.com/data/power/ncl/ndc_nma_3.pdf
footprint NPDIP14 (DIP; 14 Rectangular pins (8 Absent); Row Space 7.62 mm; Pitch 2.54 mm)
pins: 1 GND (power), 8 0V (out), 9 +V (out), 11 -V (out), 14 VIN (power)

## NMA0515S
designator U?
Isolated 1W Dual Output; Note: Pins 3 and 7 are not present.; Published: 8-Jun-2000; LatestRevisionDate: 17-Jul-2002; LatestRevisionNote: Re-released for DXP Platform.; DatasheetVersion: Jul-1996; PackageVersion: 1996; PackageReference: NPSIP7; Publisher: Altium Limited; PackageDescription: SIP; 7 Leads (2 Absent); Body 19.5 x 6 mm (LxW typ); Pitch 2.54 mm; ComponentLink1Description: Manufacturer Link; ComponentLink1URL: http://www.dc-dc.com/; ComponentLink2Description: Datasheet; ComponentLink2URL: http://www.cd4power.com/data/power/ncl/ndc_nma_3.pdf
footprint NPSIP7 (SIP; 7 Leads (2 Absent); Body 19.5 x 6 mm (LxW typ); Pitch 2.54 mm)
pins: 1 VIN (power), 2 GND (power), 4 -V (out), 5 0V (out), 6 +V (out)

## NMA0515TM
designator U?
Isolated 1W Dual Output Surface Mount; Note: Pin 18 is No Internal Connection (NC) pin and is not drawn.  Pins 2, 4, 5, 6, 8,10, 11 and 13-17 are not present.; Published: 8-Jun-2000; LatestRevisionDate: 13-Apr-2006; LatestRevisionNote: IPC-7351 Footprint Added.; DatasheetVersion: Jul-1996; PackageVersion: 1996; PackageReference: NPSOIC18; Publisher: Altium Limited; PackageDescription: 18-Pin (12 Absent) Small Outline Package 1.27 mm Pitch; ComponentLink1Description: Manufacturer Link; ComponentLink1URL: http://www.dc-dc.com/; ComponentLink2Description: Datasheet; ComponentLink2URL: http://www.cd4power.com/data/power/ncl/ndc_nma_3.pdf
footprint NPSOIC18_N (SOP, 18-Leads (12 Absent), Body 15.2x7.7mm, Pitch 1.27mm, IPC Medium Density)
footprint NPSOIC18_L (SOP, 18-Leads (12 Absent), Body 15.2x7.7mm, Pitch 1.27mm, IPC High Density)
footprint NPSOIC18_M (SOP, 18-Leads (12 Absent), Body 15.2x7.7mm, Pitch 1.27mm, IPC Low Density)
pins: 1 GND (power), 3 VIN (power), 7 0V (out), 9 -V (out), 12 +V (out)

## NMA1205D
designator U?
Isolated 1W Dual Output; Note: Pin 7 is No Internal Connection (NC) pin and is not drawn. Pins 2-6, 10, 12 and 13 are not present.; Published: 8-Jun-2000; LatestRevisionDate: 17-Jul-2002; LatestRevisionNote: PCB footprint, 'DIP-P6(14)/X1.2' replaced; Re-released for DXP Platform.; DatasheetVersion: Jul-1996; PackageVersion: 1996; PackageReference: NPDIP14; Publisher: Altium Limited; PackageDescription: DIP; 14 Rectangular pins (8 Absent); Row Space 7.62 mm; Pitch 2.54 mm; ComponentLink1Description: Manufacturer Link; ComponentLink1URL: http://www.dc-dc.com/; ComponentLink2Description: Datasheet; ComponentLink2URL: http://www.cd4power.com/data/power/ncl/ndc_nma_3.pdf
footprint NPDIP14 (DIP; 14 Rectangular pins (8 Absent); Row Space 7.62 mm; Pitch 2.54 mm)
pins: 1 GND (power), 8 0V (out), 9 +V (out), 11 -V (out), 14 VIN (power)

## NMA1205S
designator U?
Isolated 1W Dual Output; Note: Pins 3 and 7 are not present.; Published: 8-Jun-2000; LatestRevisionDate: 17-Jul-2002; LatestRevisionNote: Re-released for DXP Platform.; DatasheetVersion: Jul-1996; PackageVersion: 1996; PackageReference: NPSIP7; Publisher: Altium Limited; PackageDescription: SIP; 7 Leads (2 Absent); Body 19.5 x 6 mm (LxW typ); Pitch 2.54 mm; ComponentLink1Description: Manufacturer Link; ComponentLink1URL: http://www.dc-dc.com/; ComponentLink2Description: Datasheet; ComponentLink2URL: http://www.cd4power.com/data/power/ncl/ndc_nma_3.pdf
footprint NPSIP7 (SIP; 7 Leads (2 Absent); Body 19.5 x 6 mm (LxW typ); Pitch 2.54 mm)
pins: 1 VIN (power), 2 GND (power), 4 -V (out), 5 0V (out), 6 +V (out)

## NMA1205TM
designator U?
Isolated 1W Dual Output Surface Mount; Note: Pin 18 is No Internal Connection (NC) pin and is not drawn.  Pins 2, 4, 5, 6, 8,10, 11 and 13-17 are not present.; Published: 8-Jun-2000; LatestRevisionDate: 13-Apr-2006; LatestRevisionNote: IPC-7351 Footprint Added.; DatasheetVersion: Jul-1996; PackageVersion: 1996; PackageReference: NPSOIC18; Publisher: Altium Limited; PackageDescription: 18-Pin (12 Absent) Small Outline Package 1.27 mm Pitch; ComponentLink1Description: Manufacturer Link; ComponentLink1URL: http://www.dc-dc.com/; ComponentLink2Description: Datasheet; ComponentLink2URL: http://www.cd4power.com/data/power/ncl/ndc_nma_3.pdf
footprint NPSOIC18_N (SOP, 18-Leads (12 Absent), Body 15.2x7.7mm, Pitch 1.27mm, IPC Medium Density)
footprint NPSOIC18_L (SOP, 18-Leads (12 Absent), Body 15.2x7.7mm, Pitch 1.27mm, IPC High Density)
footprint NPSOIC18_M (SOP, 18-Leads (12 Absent), Body 15.2x7.7mm, Pitch 1.27mm, IPC Low Density)
pins: 1 GND (power), 3 VIN (power), 7 0V (out), 9 -V (out), 12 +V (out)

## NMA1209D
designator U?
Isolated 1W Dual Output; Note: Pin 7 is No Internal Connection (NC) pin and is not drawn. Pins 2-6, 10, 12 and 13 are not present.; Published: 8-Jun-2000; LatestRevisionDate: 17-Jul-2002; LatestRevisionNote: PCB footprint, 'DIP-P6(14)/X1.2' replaced; Re-released for DXP Platform.; DatasheetVersion: Jul-1996; PackageVersion: 1996; PackageReference: NPDIP14; Publisher: Altium Limited; PackageDescription: DIP; 14 Rectangular pins (8 Absent); Row Space 7.62 mm; Pitch 2.54 mm; ComponentLink1Description: Manufacturer Link; ComponentLink1URL: http://www.dc-dc.com/; ComponentLink2Description: Datasheet; ComponentLink2URL: http://www.cd4power.com/data/power/ncl/ndc_nma_3.pdf
footprint NPDIP14 (DIP; 14 Rectangular pins (8 Absent); Row Space 7.62 mm; Pitch 2.54 mm)
pins: 1 GND (power), 8 0V (out), 9 +V (out), 11 -V (out), 14 VIN (power)

## NMA1209S
designator U?
Isolated 1W Dual Output; Note: Pins 3 and 7 are not present.; Published: 8-Jun-2000; LatestRevisionDate: 17-Jul-2002; LatestRevisionNote: Re-released for DXP Platform.; DatasheetVersion: Jul-1996; PackageVersion: 1996; PackageReference: NPSIP7; Publisher: Altium Limited; PackageDescription: SIP; 7 Leads (2 Absent); Body 19.5 x 6 mm (LxW typ); Pitch 2.54 mm; ComponentLink1Description: Manufacturer Link; ComponentLink1URL: http://www.dc-dc.com/; ComponentLink2Description: Datasheet; ComponentLink2URL: http://www.cd4power.com/data/power/ncl/ndc_nma_3.pdf
footprint NPSIP7 (SIP; 7 Leads (2 Absent); Body 19.5 x 6 mm (LxW typ); Pitch 2.54 mm)
pins: 1 VIN (power), 2 GND (power), 4 -V (out), 5 0V (out), 6 +V (out)

## NMA1209TM
designator U?
Isolated 1W Dual Output Surface Mount; Note: Pin 18 is No Internal Connection (NC) pin and is not drawn.  Pins 2, 4, 5, 6, 8,10, 11 and 13-17 are not present.; Published: 8-Jun-2000; LatestRevisionDate: 13-Apr-2006; LatestRevisionNote: IPC-7351 Footprint Added.; DatasheetVersion: Jul-1996; PackageVersion: 1996; PackageReference: NPSOIC18; Publisher: Altium Limited; PackageDescription: 18-Pin (12 Absent) Small Outline Package 1.27 mm Pitch; ComponentLink1Description: Manufacturer Link; ComponentLink1URL: http://www.dc-dc.com/; ComponentLink2Description: Datasheet; ComponentLink2URL: http://www.cd4power.com/data/power/ncl/ndc_nma_3.pdf
footprint NPSOIC18_N (SOP, 18-Leads (12 Absent), Body 15.2x7.7mm, Pitch 1.27mm, IPC Medium Density)
footprint NPSOIC18_L (SOP, 18-Leads (12 Absent), Body 15.2x7.7mm, Pitch 1.27mm, IPC High Density)
footprint NPSOIC18_M (SOP, 18-Leads (12 Absent), Body 15.2x7.7mm, Pitch 1.27mm, IPC Low Density)
pins: 1 GND (power), 3 VIN (power), 7 0V (out), 9 -V (out), 12 +V (out)

## NMA1212D
designator U?
Isolated 1W Dual Output; Note: Pin 7 is No Internal Connection (NC) pin and is not drawn. Pins 2-6, 10, 12 and 13 are not present.; Published: 8-Jun-2000; LatestRevisionDate: 17-Jul-2002; LatestRevisionNote: PCB footprint, 'DIP-P6(14)/X1.2' replaced; Re-released for DXP Platform.; DatasheetVersion: Jul-1996; PackageVersion: 1996; PackageReference: NPDIP14; Publisher: Altium Limited; PackageDescription: DIP; 14 Rectangular pins (8 Absent); Row Space 7.62 mm; Pitch 2.54 mm; ComponentLink1Description: Manufacturer Link; ComponentLink1URL: http://www.dc-dc.com/; ComponentLink2Description: Datasheet; ComponentLink2URL: http://www.cd4power.com/data/power/ncl/ndc_nma_3.pdf
footprint NPDIP14 (DIP; 14 Rectangular pins (8 Absent); Row Space 7.62 mm; Pitch 2.54 mm)
pins: 1 GND (power), 8 0V (out), 9 +V (out), 11 -V (out), 14 VIN (power)

## NMA1212S
designator U?
Isolated 1W Dual Output; Note: Pins 3 and 7 are not present.; Published: 8-Jun-2000; LatestRevisionDate: 17-Jul-2002; LatestRevisionNote: Re-released for DXP Platform.; DatasheetVersion: Jul-1996; PackageVersion: 1996; PackageReference: NPSIP7; Publisher: Altium Limited; PackageDescription: SIP; 7 Leads (2 Absent); Body 19.5 x 6 mm (LxW typ); Pitch 2.54 mm; ComponentLink1Description: Manufacturer Link; ComponentLink1URL: http://www.dc-dc.com/; ComponentLink2Description: Datasheet; ComponentLink2URL: http://www.cd4power.com/data/power/ncl/ndc_nma_3.pdf
footprint NPSIP7 (SIP; 7 Leads (2 Absent); Body 19.5 x 6 mm (LxW typ); Pitch 2.54 mm)
pins: 1 VIN (power), 2 GND (power), 4 -V (out), 5 0V (out), 6 +V (out)

## NMA1212TM
designator U?
Isolated 1W Dual Output Surface Mount; Note: Pin 18 is No Internal Connection (NC) pin and is not drawn.  Pins 2, 4, 5, 6, 8,10, 11 and 13-17 are not present.; Published: 8-Jun-2000; LatestRevisionDate: 13-Apr-2006; LatestRevisionNote: IPC-7351 Footprint Added.; DatasheetVersion: Jul-1996; PackageVersion: 1996; PackageReference: NPSOIC18; Publisher: Altium Limited; PackageDescription: 18-Pin (12 Absent) Small Outline Package 1.27 mm Pitch; ComponentLink1Description: Manufacturer Link; ComponentLink1URL: http://www.dc-dc.com/; ComponentLink2Description: Datasheet; ComponentLink2URL: http://www.cd4power.com/data/power/ncl/ndc_nma_3.pdf
footprint NPSOIC18_N (SOP, 18-Leads (12 Absent), Body 15.2x7.7mm, Pitch 1.27mm, IPC Medium Density)
footprint NPSOIC18_L (SOP, 18-Leads (12 Absent), Body 15.2x7.7mm, Pitch 1.27mm, IPC High Density)
footprint NPSOIC18_M (SOP, 18-Leads (12 Absent), Body 15.2x7.7mm, Pitch 1.27mm, IPC Low Density)
pins: 1 GND (power), 3 VIN (power), 7 0V (out), 9 -V (out), 12 +V (out)

## NMA1215D
designator U?
Isolated 1W Dual Output; Note: Pin 7 is No Internal Connection (NC) pin and is not drawn. Pins 2-6, 10, 12 and 13 are not present.; Published: 8-Jun-2000; LatestRevisionDate: 17-Jul-2002; LatestRevisionNote: PCB footprint, 'DIP-P6(14)/X1.2' replaced; Re-released for DXP Platform.; DatasheetVersion: Jul-1996; PackageVersion: 1996; PackageReference: NPDIP14; Publisher: Altium Limited; PackageDescription: DIP; 14 Rectangular pins (8 Absent); Row Space 7.62 mm; Pitch 2.54 mm; ComponentLink1Description: Manufacturer Link; ComponentLink1URL: http://www.dc-dc.com/; ComponentLink2Description: Datasheet; ComponentLink2URL: http://www.cd4power.com/data/power/ncl/ndc_nma_3.pdf
footprint NPDIP14 (DIP; 14 Rectangular pins (8 Absent); Row Space 7.62 mm; Pitch 2.54 mm)
pins: 1 GND (power), 8 0V (out), 9 +V (out), 11 -V (out), 14 VIN (power)

## NMA1215S
designator U?
Isolated 1W Dual Output; Note: Pins 3 and 7 are not present.; Published: 8-Jun-2000; LatestRevisionDate: 17-Jul-2002; LatestRevisionNote: Re-released for DXP Platform.; DatasheetVersion: Jul-1996; PackageVersion: 1996; PackageReference: NPSIP7; Publisher: Altium Limited; PackageDescription: SIP; 7 Leads (2 Absent); Body 19.5 x 6 mm (LxW typ); Pitch 2.54 mm; ComponentLink1Description: Manufacturer Link; ComponentLink1URL: http://www.dc-dc.com/; ComponentLink2Description: Datasheet; ComponentLink2URL: http://www.cd4power.com/data/power/ncl/ndc_nma_3.pdf
footprint NPSIP7 (SIP; 7 Leads (2 Absent); Body 19.5 x 6 mm (LxW typ); Pitch 2.54 mm)
pins: 1 VIN (power), 2 GND (power), 4 -V (out), 5 0V (out), 6 +V (out)

## NMA1215TM
designator U?
Isolated 1W Dual Output Surface Mount; Note: Pin 18 is No Internal Connection (NC) pin and is not drawn.  Pins 2, 4, 5, 6, 8,10, 11 and 13-17 are not present.; Published: 8-Jun-2000; LatestRevisionDate: 13-Apr-2006; LatestRevisionNote: IPC-7351 Footprint Added.; DatasheetVersion: Jul-1996; PackageVersion: 1996; PackageReference: NPSOIC18; Publisher: Altium Limited; PackageDescription: 18-Pin (12 Absent) Small Outline Package 1.27 mm Pitch; ComponentLink1Description: Manufacturer Link; ComponentLink1URL: http://www.dc-dc.com/; ComponentLink2Description: Datasheet; ComponentLink2URL: http://www.cd4power.com/data/power/ncl/ndc_nma_3.pdf
footprint NPSOIC18_N (SOP, 18-Leads (12 Absent), Body 15.2x7.7mm, Pitch 1.27mm, IPC Medium Density)
footprint NPSOIC18_L (SOP, 18-Leads (12 Absent), Body 15.2x7.7mm, Pitch 1.27mm, IPC High Density)
footprint NPSOIC18_M (SOP, 18-Leads (12 Absent), Body 15.2x7.7mm, Pitch 1.27mm, IPC Low Density)
pins: 1 GND (power), 3 VIN (power), 7 0V (out), 9 -V (out), 12 +V (out)

## NMA2405D
designator U?
Isolated 1W Dual Output; Note: Pin 7 is No Internal Connection (NC) pin and is not drawn. Pins 2-6, 10, 12 and 13 are not present.; Published: 8-Jun-2000; LatestRevisionDate: 17-Jul-2002; LatestRevisionNote: PCB footprint, 'DIP-P6(14)/X1.2' replaced; Re-released for DXP Platform.; DatasheetVersion: Jul-1996; PackageVersion: 1996; PackageReference: NPDIP14; Publisher: Altium Limited; PackageDescription: DIP; 14 Rectangular pins (8 Absent); Row Space 7.62 mm; Pitch 2.54 mm; ComponentLink1Description: Manufacturer Link; ComponentLink1URL: http://www.dc-dc.com/; ComponentLink2Description: Datasheet; ComponentLink2URL: http://www.cd4power.com/data/power/ncl/ndc_nma_3.pdf
footprint NPDIP14 (DIP; 14 Rectangular pins (8 Absent); Row Space 7.62 mm; Pitch 2.54 mm)
pins: 1 GND (power), 8 0V (out), 9 +V (out), 11 -V (out), 14 VIN (power)

## NMA2405S
designator U?
Isolated 1W Dual Output; Note: Pins 3 and 7 are not present.; Published: 8-Jun-2000; LatestRevisionDate: 17-Jul-2002; LatestRevisionNote: Re-released for DXP Platform.; DatasheetVersion: Jul-1996; PackageVersion: 1996; PackageReference: NPSIP7; Publisher: Altium Limited; PackageDescription: SIP; 7 Leads (2 Absent); Body 19.5 x 6 mm (LxW typ); Pitch 2.54 mm; ComponentLink1Description: Manufacturer Link; ComponentLink1URL: http://www.dc-dc.com/; ComponentLink2Description: Datasheet; ComponentLink2URL: http://www.cd4power.com/data/power/ncl/ndc_nma_3.pdf
footprint NPSIP7 (SIP; 7 Leads (2 Absent); Body 19.5 x 6 mm (LxW typ); Pitch 2.54 mm)
pins: 1 VIN (power), 2 GND (power), 4 -V (out), 5 0V (out), 6 +V (out)

## NMA2409D
designator U?
Isolated 1W Dual Output; Note: Pin 7 is No Internal Connection (NC) pin and is not drawn. Pins 2-6, 10, 12 and 13 are not present.; Published: 8-Jun-2000; LatestRevisionDate: 17-Jul-2002; LatestRevisionNote: PCB footprint, 'DIP-P6(14)/X1.2' replaced; Re-released for DXP Platform.; DatasheetVersion: Jul-1996; PackageVersion: 1996; PackageReference: NPDIP14; Publisher: Altium Limited; PackageDescription: DIP; 14 Rectangular pins (8 Absent); Row Space 7.62 mm; Pitch 2.54 mm; ComponentLink1Description: Manufacturer Link; ComponentLink1URL: http://www.dc-dc.com/; ComponentLink2Description: Datasheet; ComponentLink2URL: http://www.cd4power.com/data/power/ncl/ndc_nma_3.pdf
footprint NPDIP14 (DIP; 14 Rectangular pins (8 Absent); Row Space 7.62 mm; Pitch 2.54 mm)
pins: 1 GND (power), 8 0V (out), 9 +V (out), 11 -V (out), 14 VIN (power)

## NMA2409S
designator U?
Isolated 1W Dual Output; Note: Pins 3 and 7 are not present.; Published: 8-Jun-2000; LatestRevisionDate: 17-Jul-2002; LatestRevisionNote: Re-released for DXP Platform.; DatasheetVersion: Jul-1996; PackageVersion: 1996; PackageReference: NPSIP7; Publisher: Altium Limited; PackageDescription: SIP; 7 Leads (2 Absent); Body 19.5 x 6 mm (LxW typ); Pitch 2.54 mm; ComponentLink1Description: Manufacturer Link; ComponentLink1URL: http://www.dc-dc.com/; ComponentLink2Description: Datasheet; ComponentLink2URL: http://www.cd4power.com/data/power/ncl/ndc_nma_3.pdf
footprint NPSIP7 (SIP; 7 Leads (2 Absent); Body 19.5 x 6 mm (LxW typ); Pitch 2.54 mm)
pins: 1 VIN (power), 2 GND (power), 4 -V (out), 5 0V (out), 6 +V (out)